# EAGLE library part IOMATE.USB1 (library chip45_EagleLib_090813)
ioMate.USB1 ioMate.USB1 is a universal interface adapter module for connecting microcontrollers, FPGAs, etc. to the USB bus.
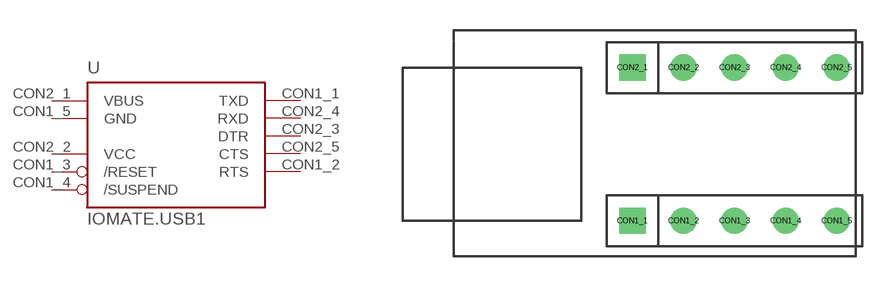
[diagram p11: symbol with the pads of IOMATE.USB1; footprint IOMATE.USB1]

Designator prefix -

## IOMATE.USB1  [IOMATE.USB1]
CON1_1  TXD  out
CON1_2  RTS  out
CON1_3  /RESET  in
CON1_4  /SUSPEND  in
CON1_5  GND  pwr
CON2_1  VBUS  pwr
CON2_2  VCC  out
CON2_3  DTR  out
CON2_4  RXD  in
CON2_5  CTS  in

## Footprint IOMATE.USB1 (pad centres in mm)
ioMate.USB1 Tiny USB-to-UART Interface Module.
drill 0.8 square: CON1_1 -1.27,-3.81; CON2_1 -1.27,3.81
drill 0.8 round: CON1_2 1.27,-3.81; CON1_3 3.81,-3.81; CON1_4 6.35,-3.81; CON1_5 8.89,-3.81; CON2_2 1.27,3.81; CON2_3 3.81,3.81; CON2_4 6.35,3.81; CON2_5 8.89,3.81